# Altium schematic symbol library oscillator.SchLib: 1 symbol
Pins are listed as number, name and electrical type; pins without a type are passive.

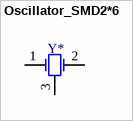
[diagram p0: symbol Oscillator_SMD2*6]

## Oscillator_SMD2*6
designator Y*, comment Oscillator  (value not drawn)
footprint OscillatorSMD2*6
pins: 1 OSC1, 2 OSC2, 3 OSC2